# Altium schematic symbol library SCH - BUTTON - PANASONIC EVQP7.SCHLIB: 1 symbol
Pins are listed as number, name and electrical type; pins without a type are passive.

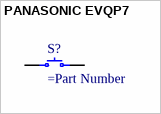
[diagram p0: symbol PANASONIC EVQP7]

## PANASONIC EVQP7
designator S?
pins: A, B